# EAGLE library part SW-DIP-5PIN (library balanced_detector_pcb)
CTS SERIES 219 DIP SWITCH
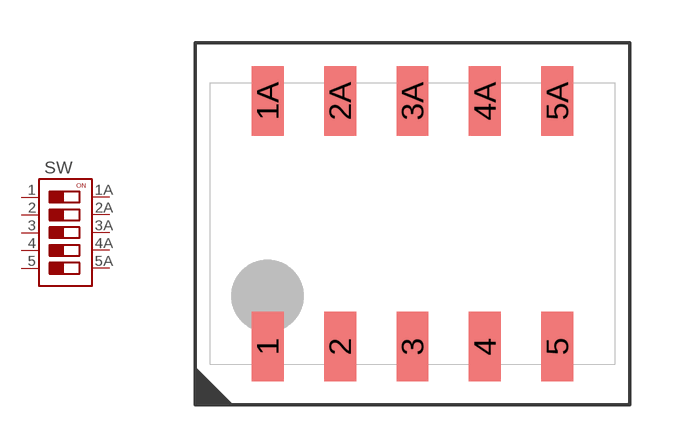
[diagram p5: symbol with the pads of CTS_219-5MST; footprint CTS_219-5MST]

Designator prefix SW

## SW-DIP-5PIN (MFG: CTS; MPN: 219-5MST; PRICE: 1.17; VENDOR: DIGIKEY; VPN: CT2195MST-ND)  [CTS_219-5MST]
1  1  pas
1A  1A  pas
2  2  pas
2A  2A  pas
3  3  pas
3A  3A  pas
4  4  pas
4A  4A  pas
5  5  pas
5A  5A  pas

## Footprint CTS_219-5MST (pad centres in mm)
SMD DIP SWITCH 5 PIN
smd 1.118 x 2.438: 1 -5.08,-4.305; 1A -5.08,4.305; 2 -2.54,-4.305; 2A -2.54,4.305; 3 0,-4.305; 3A 0,4.305; 4 2.54,-4.305; 4A 2.54,4.305; 5 5.08,-4.305; 5A 5.08,4.305